# Altium footprint library Trans_Diodes_2N7002W-7-F_eec_IPC_B.PcbLib: 1 footprints
Each footprint in its own frame and in the unit in brackets; x right, y up, seen from the top. Pads: shape width x height; smd on the part's side, far side on the other; paste and mask are expansions set on the pad; w line width, h text height; cw(c..) or ccw(c..) is an arc to the next point about the centre after c.
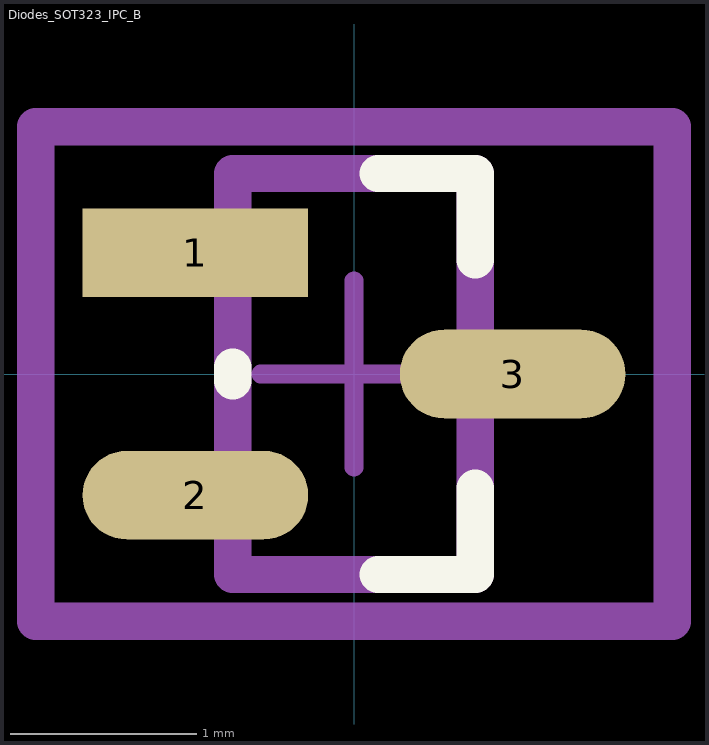
[diagram p0: the footprint, top view; thin cyan lines are the x and y axes]

## Diodes_SOT323_IPC_B [mil]
pads (3):
  rect 47.65x18.73 smd paste+0 mask+0: 1(-33.5,25.59)
  rrect100% 47.65x18.73 smd paste+0 mask+0: 2(-33.5,-25.59) 3(33.5,0)
Top Overlay:
  lines w7.87: -25.59,-1.46 -25.59,1.46 ; 5.09,-42.32 25.59,-42.32 25.59,-24.13 ; 5.09,42.32 25.59,42.32 25.59,24.13
Mechanical 10:
  lines w7.87: -67.17,-52.17 67.17,-52.17 67.17,52.17 -67.17,52.17 -67.17,-52.17
  text ".Designator" at 0,0 h39.37
Mechanical 12:
  lines w7.87: -25.59,-42.32 25.59,-42.32 25.59,42.32 -25.59,42.32 -25.59,-42.32
Mechanical 15:
  lines w3.94: -19.68,0 19.68,0 ; 0,-19.68 0,19.68
  lines w7.87: -67.17,-52.17 67.17,-52.17 67.17,52.17 -67.17,52.17 -67.17,-52.17
3D body "Trans_Diodes_2N7002W-7-F_eec.STEP": height 10, standoff 0, extent -67.17,-52.17 67.17,52.17